# Altium schematic symbol library AQ3045-01ETG.SchLib: 1 symbol
Pins are listed as number, name and electrical type; pins without a type are passive.

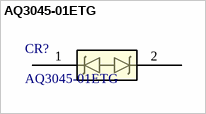
[diagram p0: symbol AQ3045-01ETG]

## AQ3045-01ETG
designator CR?
Description; Manufacturer_Name: Littelfuse Inc; Copyright: Copyright (C) 2025 Ultra Librarian. All rights reserved.; Manufacturer_Part_Number: AQ3045-01ETG; RefDes: RefDes; Type: Type
footprint RTVS_SOD882_LTF
pins: 1, 2